# EAGLE library part SN74LVC1T45 (library xess)
TI Single-Bit Dual-Supply Bus Transceiver with Configurable Voltage Translation and 3-State Outputs
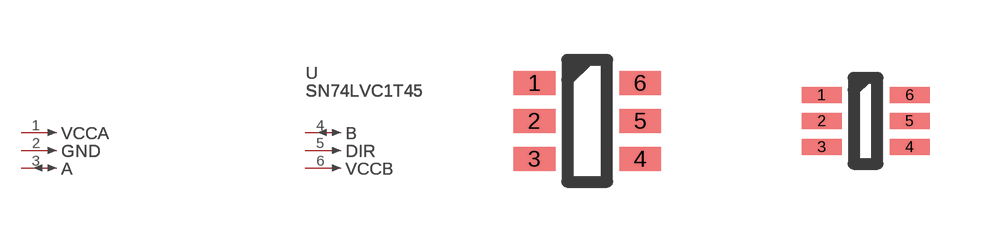
[diagram p136: symbol with the pads of TI-R-PDSO-G6-DBV; footprints TI-R-PDSO-G6-DBV, TI-R-PDSO-G6-DCK]

Designator prefix U; gates PART=PV_GATE VCCA=PIN_GATE_IN GND=PIN_GATE_IN A=PIN_GATE_IO B=PIN_GATE_IO DIR=PIN_GATE_IN VCCB=PIN_GATE_IN

## SN74LVC1T45-DBV  [TI-R-PDSO-G6-DBV]
1  VCCA:1  in
2  GND:1  in
3  A:1
4  B:1
5  DIR:1  in
6  VCCB:1  in

## SN74LVC1T45-DCK  [TI-R-PDSO-G6-DCK]
Pads as for TI-R-PDSO-G6-DBV

## SN74LVC1T45-DRL  [TI-R-PDSO-N6-DRL]
Pads as for TI-R-PDSO-G6-DBV

## Footprint TI-R-PDSO-G6-DBV (pad centres in mm)
6-Lead Plastic Small-Outline Package
smd 1.05 x 0.6: 1 0,0; 2 0,-0.95; 3 0,-1.9; 4 2.65,-1.9; 5 2.65,-0.95; 6 2.65,0

## Footprint TI-R-PDSO-G6-DCK (pad centres in mm)
6-Lead Plastic Small-Outline Package
smd 1 x 0.4: 1 0,0; 2 0,-0.65; 3 0,-1.3; 4 2.2,-1.3; 5 2.2,-0.65; 6 2.2,0

## Footprint TI-R-PDSO-N6-DRL (pad centres in mm)
6-Lead Plastic Small-Outline Package
smd 0.45 x 0.3: 1 0,0; 2 0,-0.5; 3 0,-1; 4 1.35,-1; 5 1.35,-0.5; 6 1.35,0